# Altium footprint library HDRV3W25P100_3X1_300X100H500.PcbLib: 1 footprints
Each footprint in its own frame and in the unit in brackets; x right, y up, seen from the top. Pads: shape width x height; smd on the part's side, far side on the other; paste and mask are expansions set on the pad; w line width, h text height; cw(c..) or ccw(c..) is an arc to the next point about the centre after c.
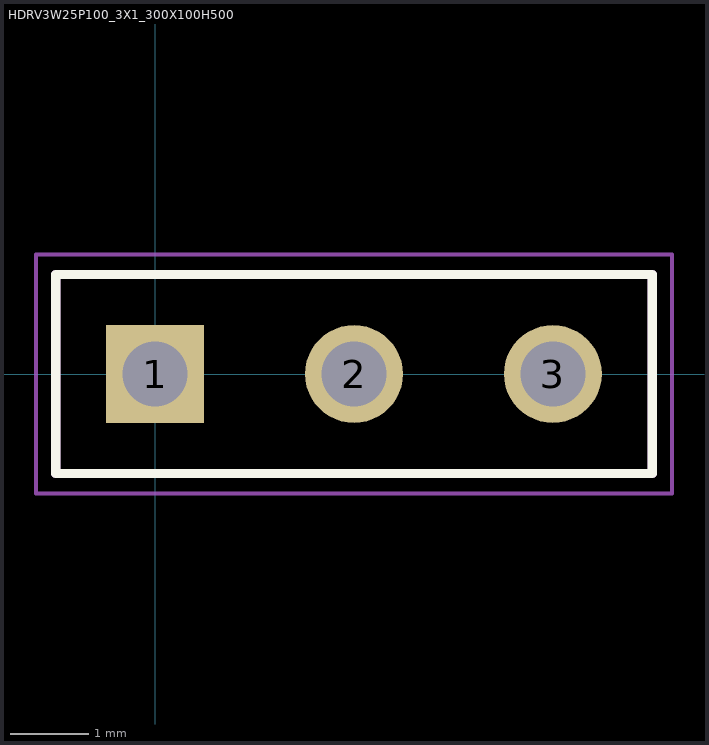
[diagram p0: the footprint, top view; thin cyan lines are the x and y axes]

## HDRV3W25P100_3X1_300X100H500 [mil] "Header, Vertical, 100 mil pitch; 25 mil lead width, 3 pins, 1 row, 3 pins per row, 300 mil L X 100 mil W X 500 mil H body"
height 500
pads (3):
  rect 49.2x49.2 hole 32.8 paste-49.2: 1(0,0)
  round 49.2 hole 32.8 paste-49.2: 2(100,0) 3(200,0)
Top Overlay:
  lines w4.7: -50,-50 -50,50 250,50 250,-50 -50,-50
Mechanical 11:
  lines w4.7: -50,-50 -50,50 250,50 250,-50 -50,-50
Mechanical 12:
  circle w1: c0,0 r12.5
  circle w1: c100,0 r12.5
  circle w1: c200,0 r12.5
  lines w1: -50,-50 -50,50 250,50 250,-50 -50,-50
Mechanical 15:
  circle w2: c0,0 r12
  lines w2: -16,0 16,0 ; 0,-16 0,16 ; -60,-60 -60,60 260,60 260,-60 -60,-60
Mechanical 16:
  text ".Designator" at 0,0 h47.2
3D body: height 500, standoff -91.24, extent -50,-50 250,50